# EAGLE library part MAX7356ETG+T (library Baja_Parts_Lib)
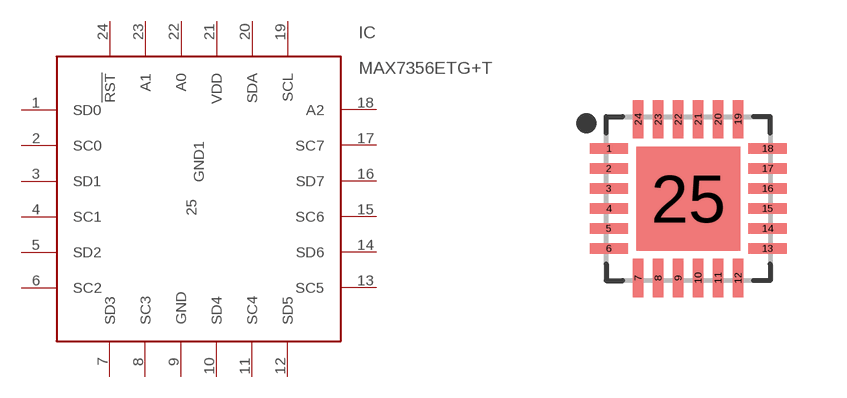
[diagram p2: symbol with the pads of QFN50P400X400X75-25T260M; footprint QFN50P400X400X75-25T260M]

Designator prefix IC

## MAX7356ETG+T  [QFN50P400X400X75-25T260M]
1  SD0
2  SC0
3  SD1
4  SC1
5  SD2
6  SC2
7  SD3
8  SC3
9  GND
10  SD4
11  SC4
12  SD5
13  SC5
14  SD6
15  SC6
16  SD7
17  SC7
18  A2
19  SCL
20  SDA
21  VDD
22  A0
23  A1
24  !RST
25  GND1

## Footprint QFN50P400X400X75-25T260M (pad centres in mm)
24-QFN, 0.50 mm pitch, 4.00 X 4.00 X 0.75 mm body, 2.60 X 2.60 mm thermal pad 24-pin QFN package with 0.50 mm pitch with body size 4.00 X 4.00 X 0.75 mm and thermal pad size 2.60 X 2.60 mm
smd 0.96 x 0.264: 1 -1.985,1.25; 2 -1.985,0.75; 3 -1.985,0.25; 4 -1.985,-0.25; 5 -1.985,-0.75; 6 -1.985,-1.25; 13 1.985,-1.25; 14 1.985,-0.75; 15 1.985,-0.25; 16 1.985,0.25; 17 1.985,0.75; 18 1.985,1.25
smd 0.264 x 0.96: 7 -1.25,-1.985; 8 -0.75,-1.985; 9 -0.25,-1.985; 10 0.25,-1.985; 11 0.75,-1.985; 12 1.25,-1.985; 19 1.25,1.985; 20 0.75,1.985; 21 0.25,1.985; 22 -0.25,1.985; 23 -0.75,1.985; 24 -1.25,1.985
smd 2.6 x 2.6: 25 0,0